# EAGLE library part 74573 (library 89S52mini)
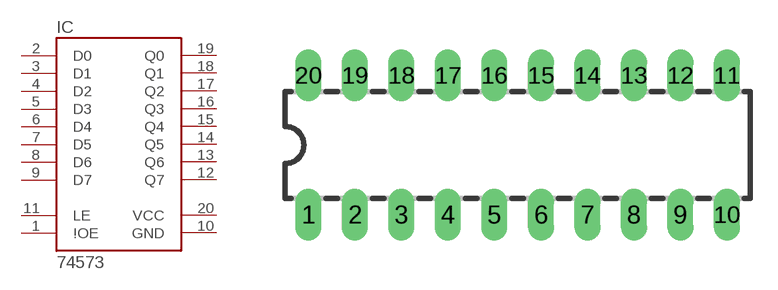
[diagram p3: symbol with the pads of DIL20; footprint DIL20]

Designator prefix IC

## 74573  [DIL20]
1  \!OE  in
2  D0  in
3  D1  in
4  D2  in
5  D3  in
6  D4  in
7  D5  in
8  D6  in
9  D7  in
10  GND  pwr
11  LE  in
12  Q7  hiz
13  Q6  hiz
14  Q5  hiz
15  Q4  hiz
16  Q3  hiz
17  Q2  hiz
18  Q1  hiz
19  Q0  hiz
20  VCC  pwr

## Footprint DIL20 (pad centres in mm)
drill 0.8 pad 1.422 long: 1 -11.43,-3.81; 2 -8.89,-3.81; 3 -6.35,-3.81; 4 -3.81,-3.81; 5 -1.27,-3.81; 6 1.27,-3.81; 7 3.81,-3.81; 8 6.35,-3.81; 9 8.89,-3.81; 10 11.43,-3.81; 11 11.43,3.81; 12 8.89,3.81; 13 6.35,3.81; 14 3.81,3.81; 15 1.27,3.81; 16 -1.27,3.81; 17 -3.81,3.81; 18 -6.35,3.81; 19 -8.89,3.81; 20 -11.43,3.81